# Altium schematic symbol library uFLAntenna.SchLib: 1 symbol
Pins are listed as number, name and electrical type; pins without a type are passive.

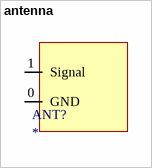
[diagram p0: symbol antenna]

## antenna
designator ANT?
uFL SMT Antenna Connector; mfr: adafruit; supplier: https://www.adafruit.com/product/1661
footprint uFL
pins: 0 GND, 1 Signal